# Altium schematic symbol library DAC.SchLib: 11 symbols
Pins are listed as number, name and electrical type; pins without a type are passive.

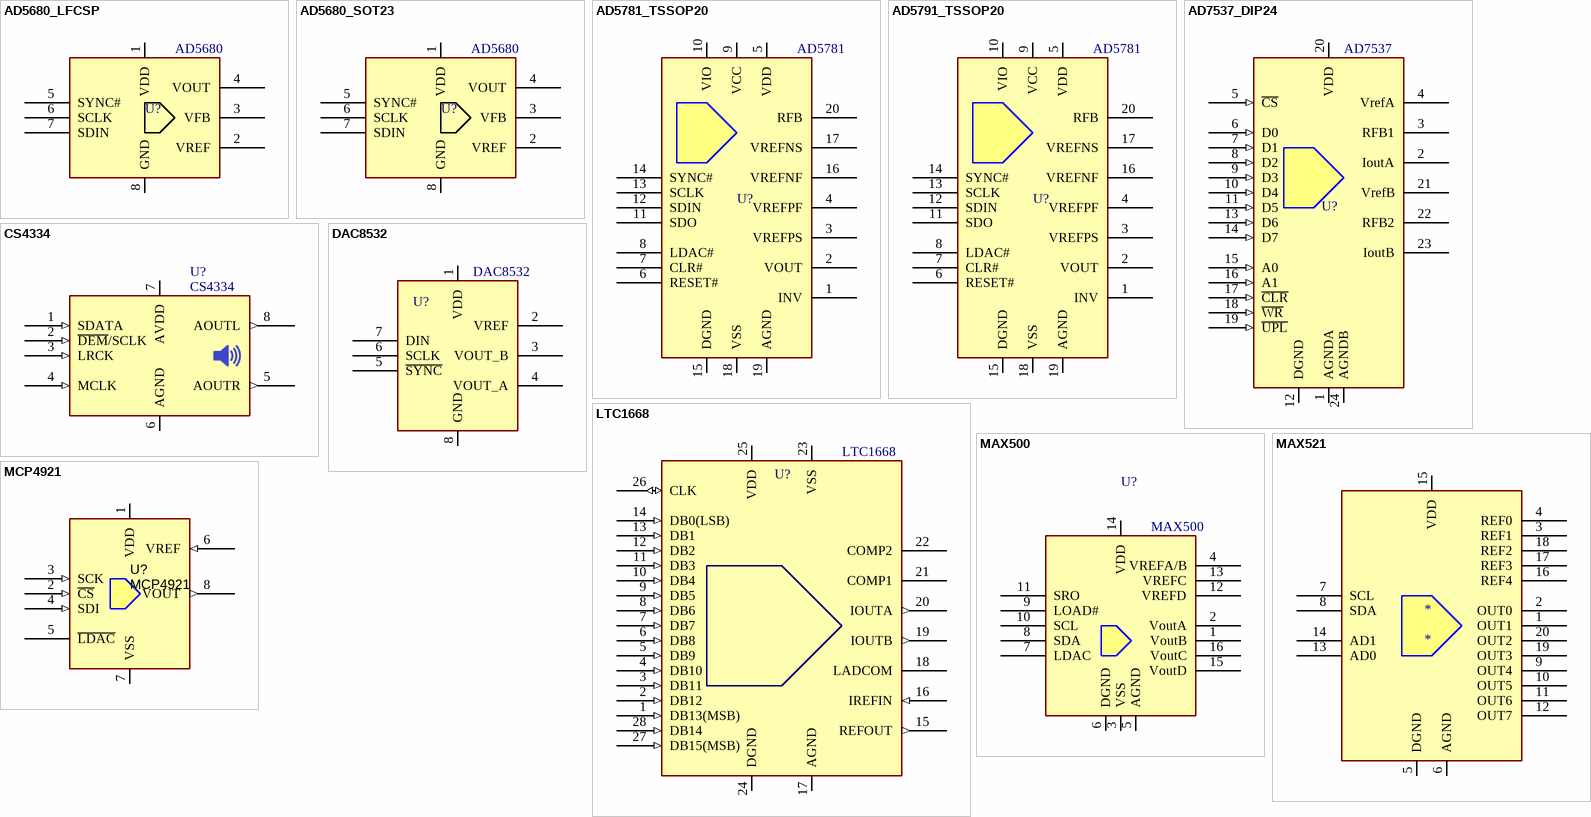
[diagram p0: symbols AD5680_LFCSP to MCP4921]

## AD5680_LFCSP
designator U?, comment AD5680
DAC, 18-Bit, 5VCC; MANF: Analog Devices; MANF_P#: AD5680BCPZ; PARAM2: 5VCC; PARAM: 18-Bit; PRICE: $8.5; VALUE: AD5680
footprint SON65_8_3X3 (Footprint not found)
pins: 1 VDD, 2 VREF, 3 VFB, 4 VOUT, 5 SYNC#, 6 SCLK, 7 SDIN, 8 GND

## AD5680_SOT23
designator U?, comment AD5680
DAC, 18-Bit, 12.5Ksps, 5VCC; MANF: Analog Devices; MANF_P#: AD5680BRJZ; PARAM2: 5VCC; PARAM: 18-Bit; PRICE: $8.5; VALUE: AD5680
footprint SOT23_8 (SOT23, 8-Leads, Body 2.90x2.80mm, Pitch 0.65mm, DSO65_8_300X150)
pins: 1 VDD, 2 VREF, 3 VFB, 4 VOUT, 5 SYNC#, 6 SCLK, 7 SDIN, 8 GND

## AD5781_TSSOP20
designator U?, comment AD5781
DAC, 18-Bit, Voltage output, ±0.5 LSB, Wide power supply up to ±16.5V; MANF: Analog Devices; MANF_P#: AD5781BRUZ, AD5781ARUZ; PARAM2: Wide power supply up to ±16.5V; PARAM: 18-Bit, Voltage output, ±0.5 LSB; PRICE: $45, $33; VALUE: AD5781
footprint SOG65_20 (PW TSSOP (TI), MO-153-AC (JEDEC), 20Lead, pitch: 0.65mm, 6.5x4.4x1.2mm)
pins: 1 INV, 2 VOUT, 3 VREFPS, 4 VREFPF, 5 VDD, 6 RESET#, 7 CLR#, 8 LDAC#, 9 VCC, 10 VIO, 11 SDO, 12 SDIN, 13 SCLK, 14 SYNC#, 15 DGND, 16 VREFNF, 17 VREFNS, 18 VSS, 19 AGND, 20 RFB

## AD5791_TSSOP20
designator U?, comment AD5781
DAC, 20-Bit, Voltage output, 1ppm ±1 LSB, Wide power supply up to ±16.5V; MANF: Analog Devices; MANF_P#: AD5791BRUZ, AD5791ARUZ; PARAM: 20-Bit, Voltage output, ±1 LSB; PARAM2: Wide power supply up to ±16.5V; PRICE: $106, $64; VALUE: AD5781
footprint SOG65_20 (PW TSSOP (TI), MO-153-AC (JEDEC), 20Lead, pitch: 0.65mm, 6.5x4.4x1.2mm)
pins: 1 INV, 2 VOUT, 3 VREFPS, 4 VREFPF, 5 VDD, 6 RESET#, 7 CLR#, 8 LDAC#, 9 VCC, 10 VIO, 11 SDO, 12 SDIN, 13 SCLK, 14 SYNC#, 15 DGND, 16 VREFNF, 17 VREFNS, 18 VSS, 19 AGND, 20 RFB

## AD7537_DIP24
designator U?, comment AD7537
DAC, Dual 12-Bit, LC2 MOS (8+4) Loading; MANF: Alanog Devices; MANF_P#: AD7537JRZ-ND; VALUE: AD7537
footprint DIP_24DW (DIP, pitch 2.54mm, 600mil Width)
signal-integrity model AD7537 (LC2MOS)
pins: 1 AGNDA (power), 2 IoutA, 3 RFB1, 4 VrefA, 5 ~{CS} (in), 6 D0 (in), 7 D1 (in), 8 D2 (in), 9 D3 (in), 10 D4 (in), 11 D5 (in), 12 DGND (power), 13 D6 (in), 14 D7 (in), 15 A0 (in), 16 A1 (in), 17 ~{CLR} (in), 18 ~{WR} (in), 19 ~{UPL} (in), 20 VDD (power), 21 VrefB, 22 RFB2, 23 IoutB, 24 AGNDB (power)

## CS4334
designator U?
DAC AUDIO, 24-Bit, 96 kHz Stereo, SOP-8; MANF: CIRRUS LOGIC; MANF_P#: CS4334, CS4335, CS4338, CS4339; PARAM2: 5V; Value: CS4334
footprint SO_8 (SOP-8, 5x3.9mm body 1.27mm pitch, SOT96-1, M08A, S8, SOIC8, VO8, MS-012AA(JEDEC), R-8, 8S2, VOG8)
pins: 1 SDATA (in), 2 ~{DEM}/SCLK (in), 3 LRCK (in), 4 MCLK (in), 5 AOUTR (out), 6 AGND (power), 7 AVDD (power), 8 AOUTL (out)

## DAC8532
designator U?
DAC, 16-Bit, 2-CH, VSSOP-8; MANF_P#: DAC8532IDGK; MANF: Texas Instruments; PARAM2: 2.7~5.5V; PRICE: $11; VALUE: DAC8532
footprint SOG65_8_3 (TSSOP8, MICRO8,  DGK VSSOP-8, MSOP8,   RM-8, MS8, MSOP-8, TSSO3X5-G8/D3.1, 8 uMAX, usop8/8uSOP, MO-187AA, MO-153AA, SSOP DCT SM8 (TI), pitch: 0.65mm, 3.0mmX3.0mm)
pins: 1 VDD (power), 2 VREF, 3 VOUT_B, 4 VOUT_A, 5 ~{SYNC}, 6 SCLK, 7 DIN, 8 GND

## LTC1668
designator U?
DAC, 16-Bit, 50MSPS, SSOP-28; MANF: Linear Technology; MANF_P#: LTC1668CG#PBF; PARAM2: ±5VCC; PARAM: 16-Bit, 50MSPS; VALUE: LTC1668
footprint SOG65_28_W (SOP, 28-Leads, Body 10.6x5.6mm (max), Pitch 0.65mm)
pins: 1 DB13(MSB) (in), 2 DB12 (in), 3 DB11 (in), 4 DB10 (in), 5 DB9 (in), 6 DB8 (in), 7 DB7 (in), 8 DB6 (in), 9 DB5 (in), 10 DB4 (in), 11 DB3 (in), 12 DB2 (in), 13 DB1 (in), 14 DB0(LSB) (in), 15 REFOUT (out), 16 IREFIN (in), 17 AGND (power), 18 LADCOM, 19 IOUTB (out), 20 IOUTA (out), 21 COMP1, 22 COMP2, 23 VSS (power), 24 DGND (power), 25 VDD (power), 26 CLK (io), 27 DB15(MSB) (in), 28 DB14 (in)

## MAX500
designator U?
DAC, 8-bit, 4-CH, voltage-output; MANF: Maxim Integrated; MANF_P#: MAX500; VALUE: MAX500
pins: 1 VoutB, 2 VoutA, 3 VSS, 4 VREFA/B, 5 AGND, 6 DGND, 7 LDAC, 8 SDA, 9 LOAD#, 10 SCL, 11 SRO, 12 VREFD, 13 VREFC, 14 VDD, 15 VoutD, 16 VoutC

## MAX521
designator *
DAC, 8-BIT, 4/8CH, SERIAL, voltage-output; MANF: Maxim Integrated; MANF_P#: MAX521; VALUE: MAX521
pins: 1 OUT1, 2 OUT0, 3 REF1, 4 REF0, 5 DGND, 6 AGND, 7 SCL, 8 SDA, 9 OUT4, 10 OUT5, 11 OUT6, 12 OUT7, 13 AD0, 14 AD1, 15 VDD, 16 REF4, 17 REF3, 18 REF2, 19 OUT3, 20 OUT2

## MCP4921
designator U?
DAC, 12-bit, SPI, SOP-8; PARAM: 12-Bit, 4.5 µs; PARAM2: 1.8~5.5V; DESC: Serial, SPI; MANF: Microchip Technology; MANF_P#: MCP4921-E/SN; VALUE: MCP4921
footprint SO_8 (SOP-8, 5x3.9mm body 1.27mm pitch, SOT96-1, M08A, S8, SOIC8, VO8, MS-012AA(JEDEC), R-8, 8S2, VOG8)
pins: 1 VDD (power), 2 ~{CS} (in), 3 SCK (in), 4 SDI (in), 5 ~{LDAC} (power), 6 VREF (in), 7 VSS (power), 8 VOUT (out)